# Altium integrated library Protection.IntLib: 6 symbols
Pins are listed as number, name and electrical type; pins without a type are passive.

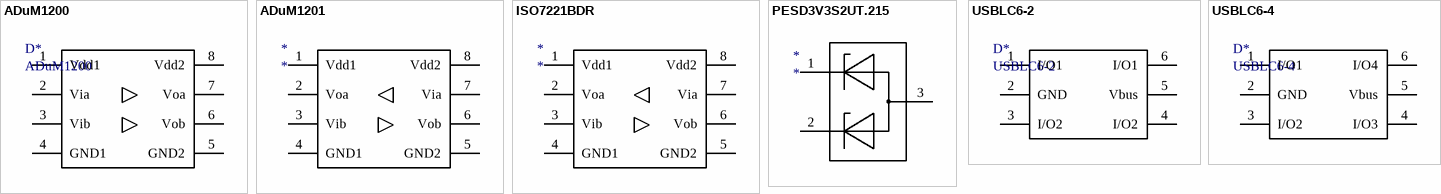
[diagram p0: symbols ADuM1200 to USBLC6-4]

## ADuM1200
designator D*
footprint SOIC8
pins: 1 Vdd1, 2 Via, 3 Vib, 4 GND1, 5 GND2, 6 Vob, 7 Voa, 8 Vdd2

## ADuM1201
designator *
footprint SOIC8
pins: 1 Vdd1, 2 Voa, 3 Vib, 4 GND1, 5 GND2, 6 Vob, 7 Via, 8 Vdd2

## ISO7221BDR
designator *
footprint SOIC8
pins: 1 Vdd1, 2 Voa, 3 Vib, 4 GND1, 5 GND2, 6 Vob, 7 Via, 8 Vdd2

## PESD3V3S2UT.215
designator *
footprint SOT-23
pins: 1 K, 2 K, 3 A

## USBLC6-2
designator D*
footprint SOT23-6L
pins: 1 I/O1, 2 GND, 3 I/O2, 4 I/O2, 5 Vbus, 6 I/O1

## USBLC6-4
designator D*
footprint SOT23-6L
pins: 1 I/O1, 2 GND, 3 I/O2, 4 I/O3, 5 Vbus, 6 I/O4